# EAGLE library part IR2104S (library equinox)
Half Bridge Mosfet - IGBT driver SOIC
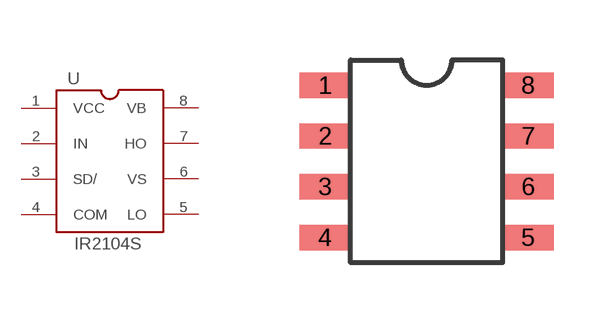
[diagram p3: symbol with the pads of IR2104S; footprint IR2104S]

Designator prefix -

## IR2104S  [IR2104S]
1  VCC  pwr
2  IN
3  SD/
4  COM
5  LO
6  VS  pwr
7  HO
8  VB  pwr

## Footprint IR2104S (pad centres in mm)
Half Bridge MosfetIGBT driver (SOIC)
smd 1.27 x 0.635: 1 0,3.81; 2 0,2.54; 3 0,1.27; 4 0,0; 5 5.08,0; 6 5.08,1.27; 7 5.08,2.54; 8 5.08,3.81